# EAGLE library part SN74LS273NE4 (library SN74LS273NE4)
Flip Flops Octal D-Type Flip-Flop w/Clear Source: Datasheet <http://www.ti.com/lit/ds/sdls090/sdls090.pdf>
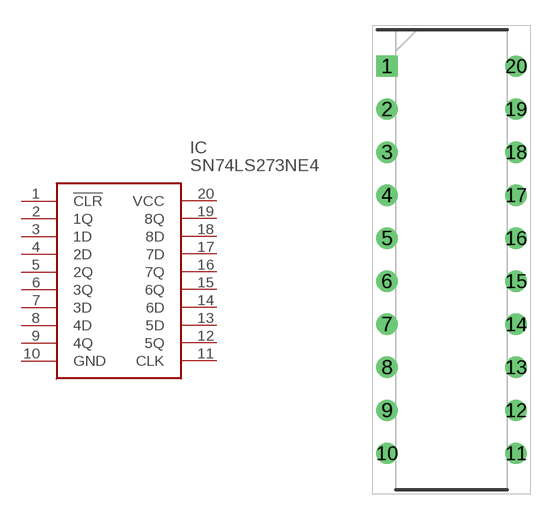
[diagram p0: symbol with the pads of DIP762W55P254L2642H457Q20N; footprint DIP762W55P254L2642H457Q20N]

Designator prefix IC

## SN74LS273NE4 (Description: Flip Flops Octal D-Type Flip-Flop w/Clear; Height: 4.57mm; Manufacturer_Name: Texas Instruments; Manufacturer_Part_Number: SN74LS273NE4; Mouser2_Part_Number: 595-SN74LS273NE4; Mouser2_Price-Stock: https://www.mouser.com/Search/Refine.aspx?Keyword=595-SN74LS273NE4)  [DIP762W55P254L2642H457Q20N]
1  !CLR  in
2  1Q  out
3  1D  in
4  2D  in
5  2Q  out
6  3Q  out
7  3D  in
8  4D  in
9  4Q  out
10  GND  pwr
11  CLK  in
12  5Q  out
13  5D  in
14  6D  in
15  6Q  out
16  7Q  out
17  7D  in
18  8D  in
19  8Q  out
20  VCC  pwr

## Footprint DIP762W55P254L2642H457Q20N (pad centres in mm)
CASE 738–03
drill 0.75 pad 1.15 square: 1 -3.81,11.43
drill 0.75 pad 1.15: 2 -3.81,8.89; 3 -3.81,6.35; 4 -3.81,3.81; 5 -3.81,1.27; 6 -3.81,-1.27; 7 -3.81,-3.81; 8 -3.81,-6.35; 9 -3.81,-8.89; 10 -3.81,-11.43; 11 3.81,-11.43; 12 3.81,-8.89; 13 3.81,-6.35; 14 3.81,-3.81; 15 3.81,-1.27; 16 3.81,1.27; 17 3.81,3.81; 18 3.81,6.35; 19 3.81,8.89; 20 3.81,11.43